# Altium footprint library DIODE.PcbLib: 7 footprints
Each footprint in its own frame and in the unit in brackets; x right, y up, seen from the top. Pads: shape width x height; smd on the part's side, far side on the other; paste and mask are expansions set on the pad; w line width, h text height; cw(c..) or ccw(c..) is an arc to the next point about the centre after c.
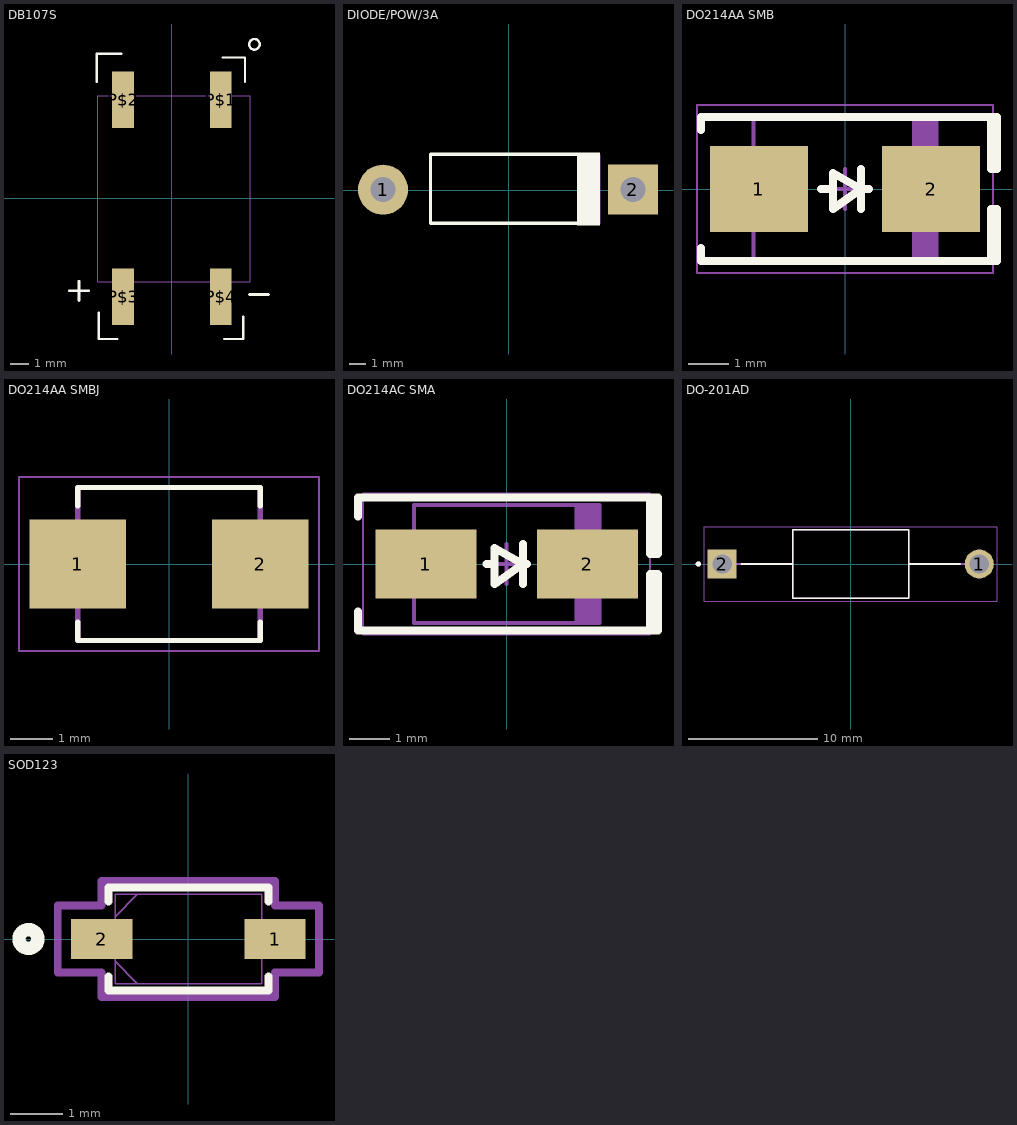
[diagram p0: the footprints below, top view; thin cyan lines are the x and y axes]

## DB107S [mm]
pads (4):
  rect 1.15x3 smd: P$1(2.6,5.25) P$2(-2.6,5.25) P$3(-2.6,-5.25) P$4(2.6,-5.25)
Top Overlay:
  circle w0.127: c4.4,8.2 r0.283
  lines w0.127: -4,6.2 -4,7.7 -2.7,7.7 ; -3.9,-6.1 -3.9,-7.5 -2.9,-7.5 ; 2.7,7.5 3.9,7.5 3.9,6.2 ; 2.8,-7.5 3.8,-7.5 3.8,-6.3
  lines w0.152: -5.448,-4.932 -4.432,-4.932 ; -4.94,-5.44 -4.94,-4.424 ; 4.132,-5.132 5.148,-5.132
Mechanical 15:
  lines w0.051: -3.937,-4.445 4.191,-4.445 4.191,5.461 -3.937,5.461 -3.937,-4.445
Mechanical 29:
  text "'.Designator'" at -3.556,0.254 h1.52
3D body "step_temp.STEP": height 2.7, standoff 0, extent -3.948,-4.442 4.202,5.458

## DIODE/POW/3A [mil]
pads (2):
  round 120 hole 60: 1(-301,1)
  rect 120x120 hole 60: 2(298,1)
Top Overlay:
  rectangle: 164,-85 219,90
  lines w7.87: 192.57,85.5 -187.43,85.5 -187.43,-79.5 197.57,-79.5 ; 194,85 214,65 ; 199,-80 214,-65
Mechanical 15:
  lines w2.01: -186,-80 220,-80 220,85 194,85 -186,85 -186,-80
Mechanical 29:
  text "'.Designator'" at -220,-5.01 h60
3D body "User Library-BYW98.step": height 248.03, standoff -92.52, extent -320.86,-104.32 320.87,104.34

## DO214AA SMB [mm] "Molded Diode, 2-Leads, Body 4.31x3.62mm, IPC Medium Density"
height 2.44
pads (2):
  rect 2.45x2.15 smd: 1(-2.15,0) 2(2.15,0)
Top Overlay:
  lines w0.2: -3.6,-1.475 -3.6,-1.8 3.8,-1.8 3.8,-0.5 3.65,-0.5 3.65,-1.8 ; -3.6,1.475 -3.6,1.8 3.8,1.8 3.8,0.5 3.65,0.5 3.65,1.8 ; -0.6,0 -0.3,0 ; 0.4,-0.5 0.4,0.5 ; 0.6,0 0.4,0 ; 0.4,0 -0.3,-0.5 -0.3,0.4 0.4,0
Mechanical 15:
  rectangle: 1.67,-1.8 2.285,1.8
  lines w0.1: -2.285,-1.8 -2.285,1.8 2.285,1.8 2.285,-1.8 -2.285,-1.8
Mechanical 29:
  lines w0.05: -3.7,-2.1 -3.7,2.1 3.7,2.1 3.7,-2.1 -3.7,-2.1
  lines w0.1: -0.5,0 0.5,0 ; 0,-0.5 0,0.5
  text "'.Designator'" at -4.445,-0.635 h1.52
3D body "SMB.STEP": height 2.4, standoff 0, extent -2.6,-1.799 2.6,1.8

## DO214AA SMBJ [mm]
height 2.65
pads (2):
  rect 2.28x2.12 smd: 1(-2.165,0) 2(2.165,0)
Top Overlay:
  lines w0.127: -2.163,-1.38 -2.163,-1.813 2.163,-1.813 2.163,-1.38 ; -2.163,1.38 -2.163,1.813 2.163,1.813 2.163,1.38
Mechanical 13:
  lines w0.127: -2.163,-1.813 2.163,-1.813 2.163,1.813 -2.163,1.813 -2.163,-1.813
Mechanical 15:
  lines w0.05: -3.555,-2.063 3.555,-2.063 3.555,2.063 -3.555,2.063 -3.555,-2.063
3D body "step_temp.STEP": height 2.65, standoff 0, extent -2.67,-1.813 2.67,1.813

## DO214AC SMA [mm] "Molded Diode, 2-Leads, Body 4.30x2.60mm, IPC Medium Density"
height 2.4
pads (2):
  rect 2.5x1.7 smd: 1(-2,0) 2(2,0)
Top Overlay:
  lines w0.2: -3.683,-1.175 -3.683,-1.651 3.75,-1.651 3.75,-0.254 3.556,-0.254 3.556,-1.651 ; -3.683,1.175 -3.683,1.651 3.75,1.651 3.75,0.254 3.556,0.254 3.556,1.651 ; -0.5,0 -0.3,0 ; 0.4,-0.5 0.4,0.5 ; 0.5,0 0.4,0 ; 0.4,0 -0.3,-0.5 -0.3,0.4 0.4,0
Mechanical 13:
  rectangle: 1.681,-1.46 2.3,1.46
  lines w0.1: -2.3,-1.46 2.3,-1.46 2.3,1.46 -2.3,1.46 -2.3,-1.46
Mechanical 15:
  lines w0.05: -3.556,-1.75 3.556,-1.75 3.556,1.75 -3.556,1.75 -3.556,-1.75
  lines w0.1: -0.5,0 0.5,0 ; 0,-0.5 0,0.5
Mechanical 29:
  text "'.Designator'" at -2.032,-0.508 h1.52
3D body "SMA.STEP": height 2.4, standoff 0, extent -2.6,-1.375 2.6,1.375

## DO-201AD [mm]
height 5.6
pads (2):
  round 2.25 hole 1.5: 1(9.95,0)
  rect 2.25x2.25 / inner round 2.25 / far side rect 2.25x2.25 hole 1.5: 2(-9.95,0)
Top Overlay:
  circle w0.2: c-11.8,0 r0.1
  lines w0.127: -8.47,0 -4.5,0 ; 8.47,0 4.5,0 ; -4.5,0 -4.5,2.65 4.5,2.65 4.5,0 ; -4.5,0 -4.5,-2.65 4.5,-2.65 4.5,0
Mechanical 13:
  circle w0.2: c-11.8,0 r0.1
  lines w0.127: -9.95,0 -4.5,0 ; 9.95,0 4.5,0 ; -4.5,0 -4.5,2.65 4.5,2.65 4.5,0 ; -4.5,0 -4.5,-2.65 4.5,-2.65 4.5,0
Mechanical 15:
  lines w0.05: -11.325,-2.9 -11.325,2.9 11.325,2.9 11.325,-2.9 -11.325,-2.9
Mechanical 29:
  text "'.Designator'" at -8.128,-0.508 h1.52
3D body "step_temp.STEP": height 5.6, standoff -12.65, extent -10.575,-2.8 10.575,2.8

## SOD123 [mil]
pads (2):
  rect 46x30 smd paste+0 mask+0: 1(65,0) 2(-65,0)
Top Overlay:
  circle w10: c-120,0 r7.07
  lines w6: -60,-28.1 -60,-38.5 60,-38.5 60,-28.1 ; -60,28.1 -60,38.5 60,38.5 60,28.1
Mechanical 15:
  lines w1: -55,-16.75 -38.25,-33.5 ; -55,16.75 -38.25,33.5 ; -74,-14 -55,-14 -55,14 -74,14 -74,-14 ; -55,-33.5 -55,33.5 55,33.5 55,-33.5 -55,-33.5 ; 55,-14 74,-14 74,14 55,14 55,-14
  lines w6: -98,-25 -65,-25 -65,-43.5 65,-43.5 65,-25 98,-25 98,25 65,25 65,43.5 -65,43.5 -65,25 -98,25 -98,-25
Mechanical 29:
  text "*" at -57.5,-25 h50
  text "'.Designator'" at -87.5,-25 h50
3D body "SOD123_NEX.step": height 51.1, standoff 0, extent -74.01,-33.5 74.02,33.51